# EAGLE library part MIC2253 (library PMIC)
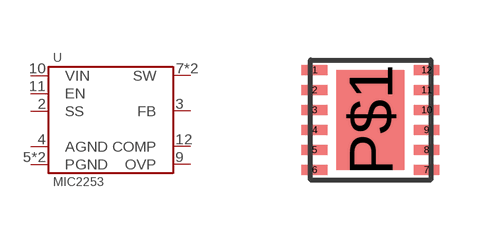
[diagram p1: symbol with the pads of MLF-12; footprint MLF-12]

Designator prefix U

## MIC2253  [MLF-12]
2  SS
3  FB
4  AGND
5  PGND
6  PGND
7  SW
8  SW
9  OVP
10  VIN
11  EN
12  COMP

## Footprint MLF-12 (pad centres in mm)
smd 0.65 x 0.25: 1 -1.4,1.25; 2 -1.4,0.75; 3 -1.4,0.25; 4 -1.4,-0.25; 5 -1.4,-0.75; 6 -1.4,-1.25; 7 1.4,-1.25; 8 1.4,-0.75; 9 1.4,-0.25; 10 1.4,0.25; 11 1.4,0.75; 12 1.4,1.25
smd 1.7 x 2.5: P$1 0,0